# EAGLE library part MICS-6814 (library arducorder-mini)
SGX SensorTech MiCS-6814 MEMS Gas Sensor w/3 Indepedent Sensing Elements
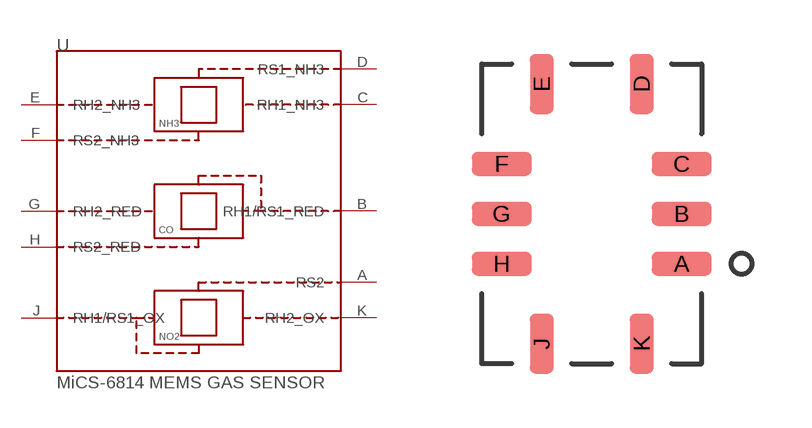
[diagram p24: symbol with the pads of MICS-6814; footprint MICS-6814]

Designator prefix -

## MICS-6814  [MICS-6814]
A  RS2
B  RH1/RS1_RED
C  RH1_NH3
D  RS1_NH3
E  RH2_NH3
F  RS2_NH3
G  RH2_RED
H  RS2_RED
J  RH1/RS1_OX
K  RH2_OX

## Footprint MICS-6814 (pad centres in mm)
smd 1.5 x 0.6: A 2.25,-1.25; B 2.25,0; C 2.25,1.25; F -2.25,1.25; G -2.25,0; H -2.25,-1.25
smd 0.6 x 1.5: D 1.25,3.25; E -1.25,3.25; J -1.25,-3.25; K 1.25,-3.25